# Altium schematic symbol library LED,Red,SMD,0603.Schlib: 1 symbol
Pins are listed as number, name and electrical type; pins without a type are passive.

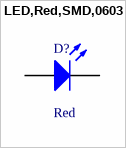
[diagram p0: symbol LED,Red,SMD,0603]

## LED,Red,SMD,0603
designator D?, comment Red
Red 633nm LED Indication - Discrete 2V 0603 (1608 Metric)
pins: A, C